# Altium schematic symbol library zetex.SCHLIB: 69 symbols
Pins are listed as number, name and electrical type; pins without a type are passive.

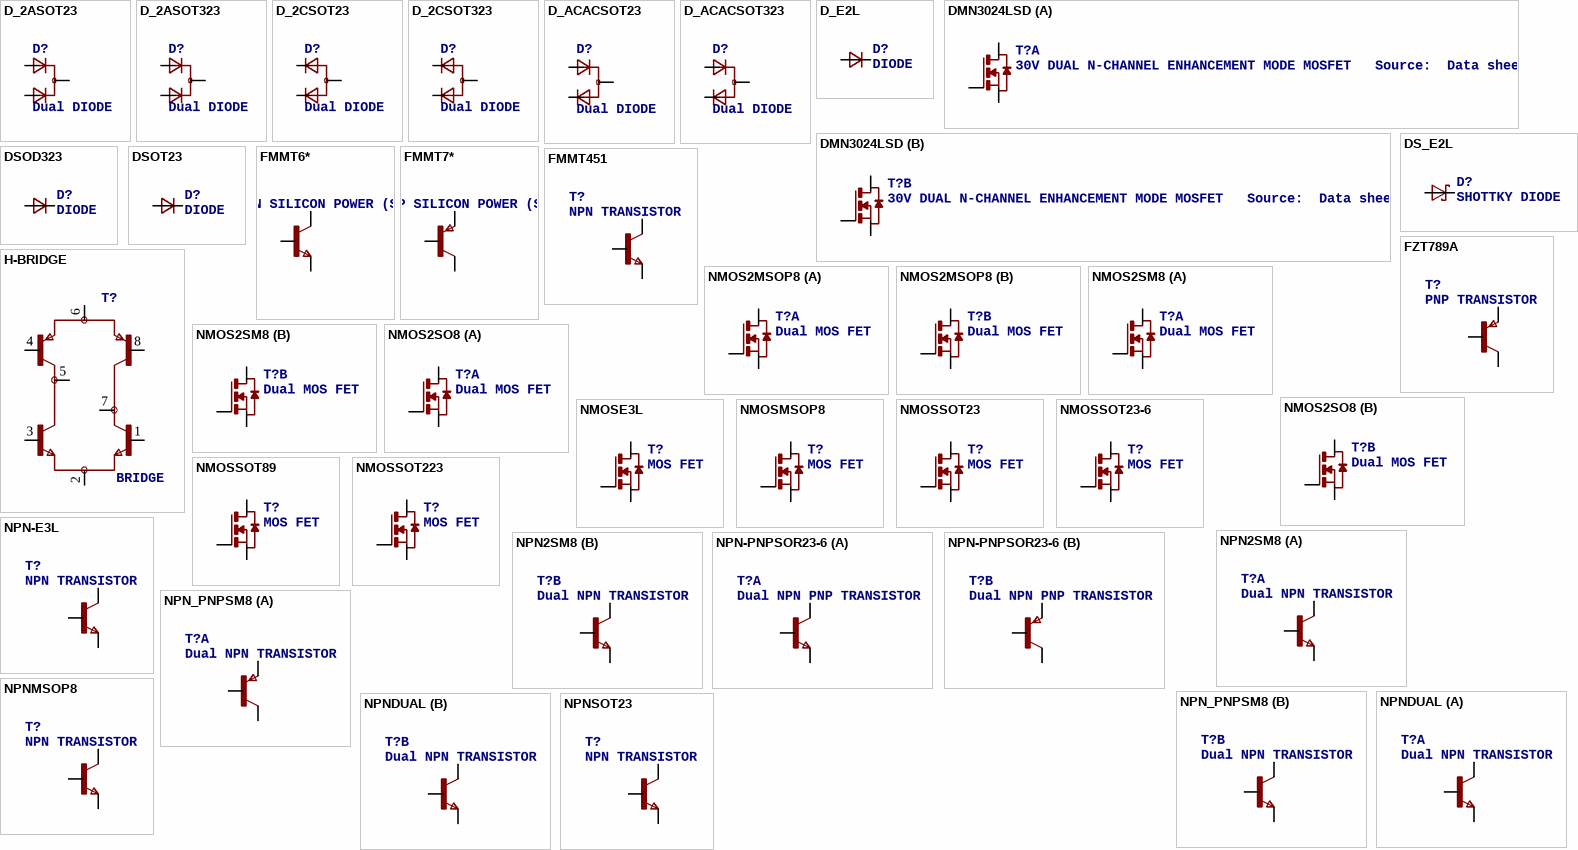
[diagram p0: symbols D_2ASOT23 to NPNSOT23]

## D_2ASOT23
designator D?, comment Dual DIODE
OC_FARNELL: unknown; OC_NEWARK: unknown
footprint SOT-23
pins: 1 C, 2 A1, 3 A2

## D_2ASOT323
designator D?, comment Dual DIODE
OC_FARNELL: unknown; OC_NEWARK: unknown
footprint SOT323
pins: 1 C, 2 A1, 3 A2

## D_2CSOT23
designator D?, comment Dual DIODE
OC_FARNELL: unknown; OC_NEWARK: unknown
footprint SOT-23
pins: 1 A, 2 C1, 3 C2

## D_2CSOT323
designator D?, comment Dual DIODE
OC_FARNELL: unknown; OC_NEWARK: unknown
footprint SOT323
pins: 1 A, 2 C1, 3 C2

## D_ACACSOT23
designator D?, comment Dual DIODE
OC_FARNELL: unknown; OC_NEWARK: unknown
footprint SOT-23
pins: 1 CA, 2 C, 3 A

## D_ACACSOT323
designator D?, comment Dual DIODE
OC_FARNELL: unknown; OC_NEWARK: unknown
footprint SOT323
pins: 1 CA, 2 C, 3 A

## D_E2L
designator D?, comment DIODE
OC_FARNELL: unknown; OC_NEWARK: unknown
footprint E2LINE
pins: 1 C, 2 A

## DMN3024LSD
designator T?, comment 30V DUAL N-CHANNEL ENHANCEMENT MODE MOSFET   Source:  Data sheet
OC_FARNELL: unknown; OC_NEWARK: unknown
footprint SO8
part A pins: 1 S, 2 G, 7 8 D
part B pins: 3 S, 4 G, 5 6 D

## DS_E2L
designator D?, comment SHOTTKY DIODE
OC_FARNELL: unknown; OC_NEWARK: unknown
footprint E2LINE
pins: 1 K, 2 A

## DSOD323
designator D?, comment DIODE
MPN: CDSOD323-T05C; OC_FARNELL: 1824860; OC_NEWARK: 79R6078
footprint SOD323
pins: 1 C, 2 A

## DSOT23
designator D?, comment DIODE
MPN: CDSOT23-T03; OC_FARNELL: 1824866; OC_NEWARK: 75K7096
footprint SOT-23
pins: 1 C, 3 A

## FMMT6*
designator T?, comment NPN SILICON POWER (SWITCHING) TRANSISTORS SuperSOT   Source: http://www.zetex.com/3.0/pdf/FMMT617.pdf
MPN: FMMT618; MPN: FMMT619; MPN: FMMT617; OC_FARNELL: 9526420; OC_NEWARK: 96K9966; OC_FARNELL: 9526439RL; OC_NEWARK: 96K9967; OC_FARNELL: 9526447; OC_NEWARK: 84K9343; OC_FARNELL: 9526439
footprint SOT-23
pins: 1 C, 2 E, 3 B

## FMMT7*
designator T?, comment PNP SILICON POWER (SWITCHING) TRANSISTORS SuperSOT   Source: http://www.zetex.com/3.0/pdf/FMMT717.pdf
MPN: FMMT718; MPN: FMMT720; MPN: FMMT717; OC_FARNELL: 9526455RL; OC_NEWARK: 85K7528; OC_FARNELL: 9526463RL; OC_NEWARK: 96K9968; OC_FARNELL: 9526471; OC_NEWARK: 96K9969; OC_FARNELL: 9526471RL; OC_FARNELL: unknown; OC_NEWARK: unknown
footprint SOT-23
pins: 1 C, 2 E, 3 B

## FMMT451
designator T?, comment NPN TRANSISTOR
OC_FARNELL: unknown; OC_NEWARK: unknown
footprint SOT-23
pins: 1 C, 2 E, 3 B

## FZT789A
designator T?, comment PNP TRANSISTOR
MPN: FZT789A; OC_FARNELL: 9526633; OC_NEWARK: 97K0407
footprint SOT223
pins: 1 B, 2 4 C, 3 E

## H-BRIDGE
designator T?, comment BRIDGE
OC_FARNELL: unknown; OC_NEWARK: unknown
footprint SM8
pins: 1 B3, 2 E2E3, 3 B2, 4 B1, 5 C1C2, 6 E1E4, 7 C3C4, 8 B4

## NMOS2MSOP8
designator T?, comment Dual MOS FET
OC_FARNELL: unknown; OC_NEWARK: unknown
footprint MSOP8
part A pins: 1 S, 2 G, 7 8 D
part B pins: 3 S, 4 G, 5 6 D

## NMOS2SM8
designator T?, comment Dual MOS FET
OC_FARNELL: unknown; OC_NEWARK: unknown
footprint SM8
part A pins: 1 S, 2 G, 7 8 D
part B pins: 3 S, 4 G, 5 6 D

## NMOS2SO8
designator T?, comment Dual MOS FET
OC_FARNELL: unknown; OC_NEWARK: unknown
footprint SO8
part A pins: 1 S, 2 G, 7 8 D
part B pins: 3 S, 4 G, 5 6 D

## NMOSE3L
designator T?, comment MOS FET
OC_FARNELL: unknown; OC_NEWARK: unknown
footprint E3LINE
pins: 1 D, 2 G, 3 S

## NMOSMSOP8
designator T?, comment MOS FET
OC_FARNELL: unknown; OC_NEWARK: unknown
footprint MSOP8
pins: 1 2 3 S, 4 G, 5 6 7 8 D

## NMOSSOT23
designator T?, comment MOS FET
OC_FARNELL: unknown; OC_NEWARK: unknown
footprint SOT-23
pins: 1 D, 2 S, 3 G

## NMOSSOT23-6
designator T?, comment MOS FET
OC_FARNELL: unknown; OC_NEWARK: unknown
footprint SOT23-6
pins: 1 2 5 6 D, 3 G, 4 S

## NMOSSOT89
designator T?, comment MOS FET
OC_FARNELL: unknown; OC_NEWARK: unknown
footprint SOT89
pins: 1 G, 2 2@1 D, 3 S

## NMOSSOT223
designator T?, comment MOS FET
OC_FARNELL: unknown; OC_NEWARK: unknown
footprint SOT223
pins: 1 G, 2 4 D, 3 S

## NPN2SM8
designator T?, comment Dual NPN TRANSISTOR
OC_FARNELL: unknown; OC_NEWARK: unknown
footprint SM8
part A pins: 3 E, 4 B, 5 6 C
part B pins: 1 E, 2 B, 7 8 C

## NPN-E3L
designator T?, comment NPN TRANSISTOR
OC_FARNELL: unknown; OC_NEWARK: unknown
footprint E3LINE
pins: 1 C, 2 B, 3 E

## NPN-PNPSOR23-6
designator T?, comment Dual NPN PNP TRANSISTOR
OC_FARNELL: unknown; OC_NEWARK: unknown
footprint SOT23-6
part A pins: 1 C, 2 B, 6 E
part B pins: 3 C, 4 E, 5 B

## NPN_PNPSM8
designator T?, comment Dual NPN TRANSISTOR
OC_FARNELL: unknown; OC_NEWARK: unknown
footprint SM8
part A pins: 1 E, 2 B, 7 8 C
part B pins: 3 E, 4 B, 5 6 C

## NPNDUAL
designator T?, comment Dual NPN TRANSISTOR
OC_FARNELL: unknown; OC_NEWARK: unknown
footprint SM8
part A pins: 3 E, 4 B, 5 6 C
part B pins: 1 E, 2 B, 7 8 C

## NPNMSOP8
designator T?, comment NPN TRANSISTOR
OC_FARNELL: unknown; OC_NEWARK: unknown
footprint MSOP8
pins: 1 2 3 E, 4 B, 5 6 7 8 C

## NPNSOT23
designator T?, comment NPN TRANSISTOR
MPN: DSS20201L-7; OC_FARNELL: 1710688; OC_NEWARK: 25R4555
footprint SOT-23
pins: 1 C, 2 E, 3 B

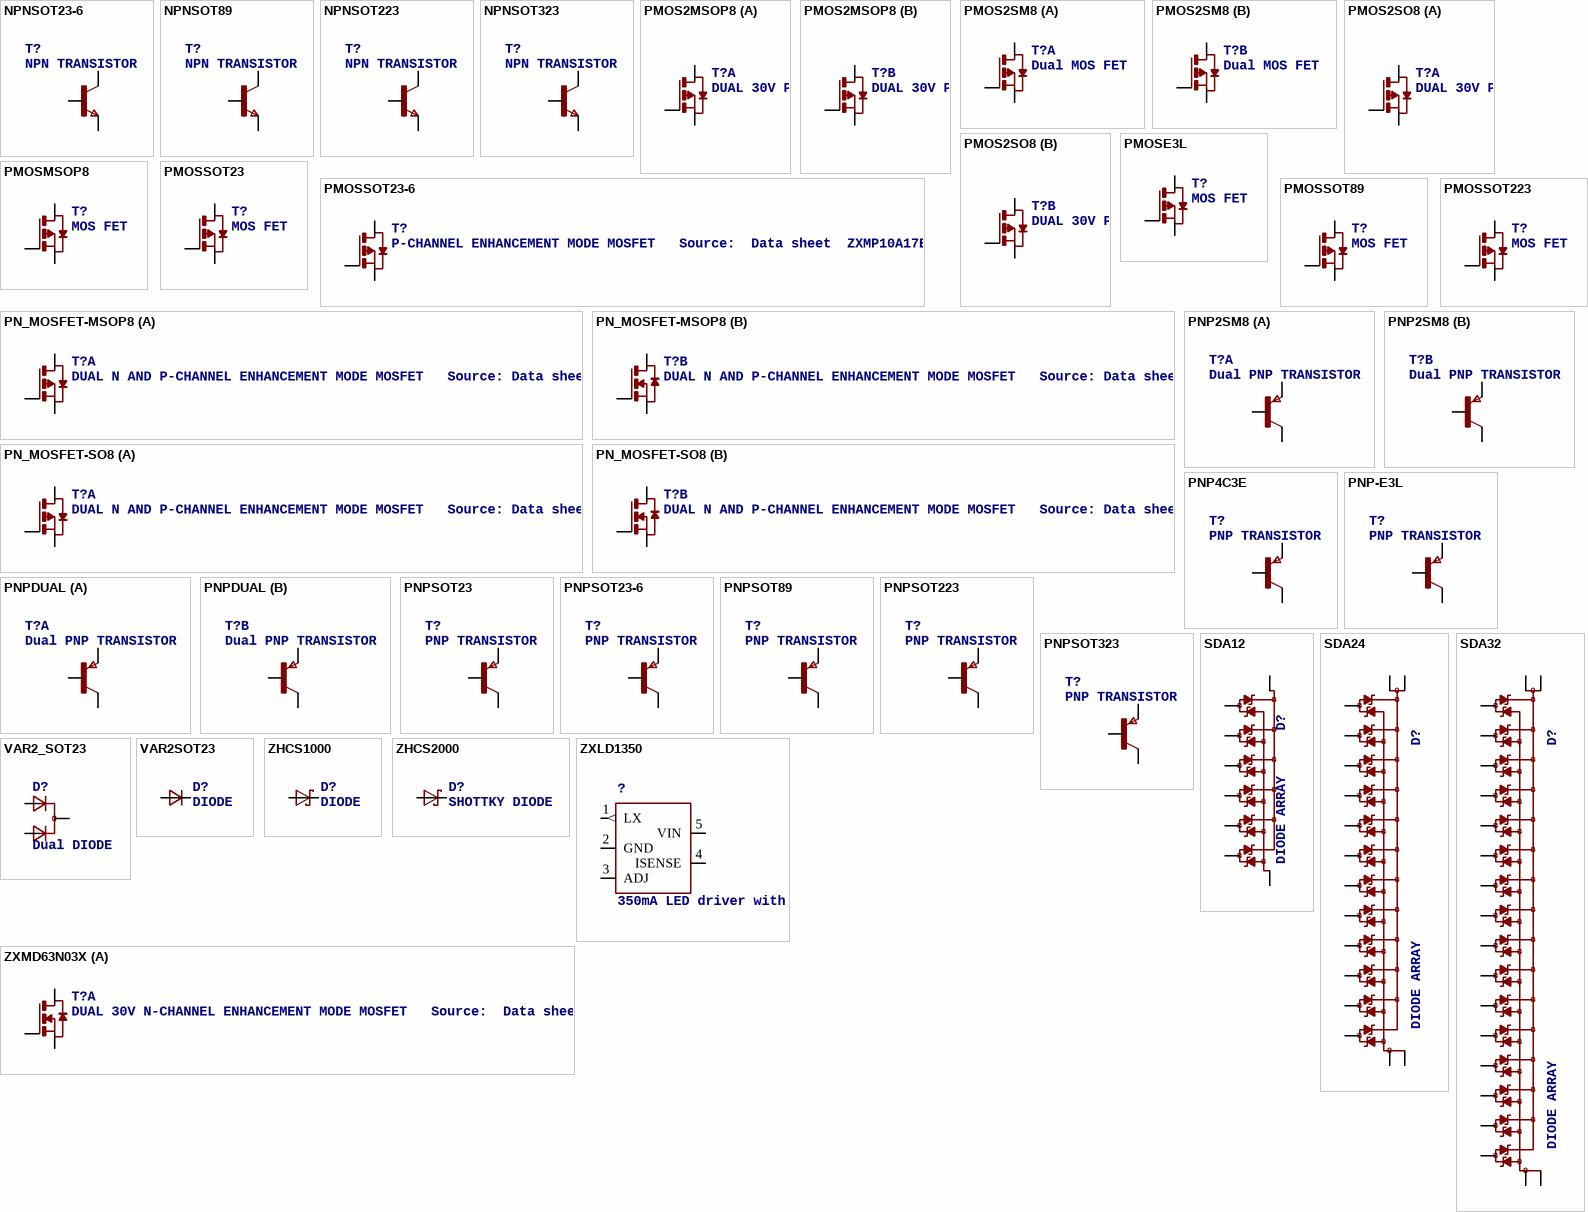
[diagram p1: symbols NPNSOT23-6 to ZXMD63N03X]

## NPNSOT23-6
designator T?, comment NPN TRANSISTOR
MPN: ZXT13N50DE6; OC_FARNELL: 9525394; OC_NEWARK: 98K4165
footprint SOT23-6
pins: 1 2 5 6 C, 3 B, 4 E

## NPNSOT89
designator T?, comment NPN TRANSISTOR
MPN: DSS4540X-13; OC_FARNELL: 1710677; OC_NEWARK: 25R4564
footprint SOT89
pins: 1 B, 2 2@1 C, 3 E

## NPNSOT223
designator T?, comment NPN TRANSISTOR
MPN: DJT4031N-13; OC_FARNELL: 1710672; OC_NEWARK: 25R4490
footprint SOT223
pins: 1 B, 2 4 C, 3 E

## NPNSOT323
designator T?, comment NPN TRANSISTOR
MPN: DSS4160U-7; OC_FARNELL: 1710696; OC_NEWARK: 25R4558
footprint SOT323
pins: 1 C, 2 B, 3 E

## PMOS2MSOP8
designator T?, comment DUAL 30V P-CHANNEL ENHANCEMENT MODE MOSFET   Source:  Data sheet SOP8 Source:  Data sheet  MSOP8
OC_FARNELL: 1412091; OC_NEWARK: unknown
footprint MSOP8
part A pins: 1 S, 2 G, 7 8 D
part B pins: 3 S, 4 G, 5 6 D

## PMOS2SM8
designator T?, comment Dual MOS FET
MPN: STS1NK60Z; OC_FARNELL: 1412107; OC_NEWARK: 57P2212
footprint SM8
part A pins: 3 S, 4 G, 5 6 D
part B pins: 1 S, 2 G, 7 8 D

## PMOS2SO8
designator T?, comment DUAL 30V P-CHANNEL ENHANCEMENT MODE MOSFET   Source:  Data sheet SOP8 Source:  Data sheet  MSOP8
OC_FARNELL: unknown; OC_NEWARK: unknown
footprint SO8
part A pins: 1 S, 2 G, 7 8 D
part B pins: 3 S, 4 G, 5 6 D

## PMOSE3L
designator T?, comment MOS FET
OC_FARNELL: unknown; OC_NEWARK: unknown
footprint E3LINE
pins: 1 D, 2 G, 3 S

## PMOSMSOP8
designator T?, comment MOS FET
OC_FARNELL: 1412091; OC_NEWARK: unknown
footprint MSOP8
pins: 1 2 3 S, 4 G, 5 6 7 8 D

## PMOSSOT23
designator T?, comment MOS FET
OC_FARNELL: unknown; OC_NEWARK: unknown
footprint SOT-23
pins: 1 D, 2 S, 3 G

## PMOSSOT23-6
designator T?, comment P-CHANNEL ENHANCEMENT MODE MOSFET   Source:  Data sheet  ZXMP10A17E6
OC_FARNELL: unknown; OC_NEWARK: unknown
footprint SOT23-6
pins: 1 2 5 6 D, 3 G, 4 S

## PMOSSOT89
designator T?, comment MOS FET
OC_FARNELL: unknown; OC_NEWARK: unknown
footprint SOT89
pins: 1 G, 2 D, 3 S

## PMOSSOT223
designator T?, comment MOS FET
OC_FARNELL: unknown; OC_NEWARK: unknown
footprint SOT223
pins: 1 G, 2 4 D, 3 S

## PN_MOSFET-MSOP8
designator T?, comment DUAL N AND P-CHANNEL ENHANCEMENT MODE MOSFET   Source: Data sheet
OC_FARNELL: unknown; OC_NEWARK: unknown
footprint MSOP8
part A pins: 3 S, 4 G, 5 6 D
part B pins: 1 S, 2 G, 7 8 D

## PN_MOSFET-SO8
designator T?, comment DUAL N AND P-CHANNEL ENHANCEMENT MODE MOSFET   Source: Data sheet
OC_FARNELL: unknown; OC_NEWARK: unknown
footprint SO8
part A pins: 3 S, 4 G, 5 6 D
part B pins: 1 S, 2 G, 7 8 D

## PNP2SM8
designator T?, comment Dual PNP TRANSISTOR
OC_FARNELL: unknown; OC_NEWARK: unknown
footprint SM8
part A pins: 3 E, 4 B, 5 6 C
part B pins: 1 E, 2 B, 7 8 C

## PNP4C3E
designator T?, comment PNP TRANSISTOR
OC_FARNELL: unknown; OC_NEWARK: unknown
footprint MSOP8
pins: 1 2 3 E, 4 B, 5 6 7 8 C

## PNP-E3L
designator T?, comment PNP TRANSISTOR
OC_FARNELL: unknown; OC_NEWARK: unknown
footprint E3LINE
pins: 1 C, 2 B, 3 E

## PNPDUAL
designator T?, comment Dual PNP TRANSISTOR
OC_FARNELL: unknown; OC_NEWARK: unknown
footprint SM8
part A pins: 1 E, 2 B, 7 8 C
part B pins: 3 E, 4 B, 5 6 C

## PNPSOT23
designator T?, comment PNP TRANSISTOR
MPN: DSS20200L-7; OC_FARNELL: unknown; OC_NEWARK: 25R4554
footprint SOT-23
pins: 1 C, 2 E, 3 B

## PNPSOT23-6
designator T?, comment PNP TRANSISTOR
MPN: ZXT13P12DE6; OC_FARNELL: 1471192RL; OC_NEWARK: 70K9269
footprint SOT23-6
pins: 1 2 5 6 C, 3 B, 4 E

## PNPSOT89
designator T?, comment PNP TRANSISTOR
MPN: 2DB1713-13; OC_FARNELL: 1710687; OC_NEWARK: 25R5670
footprint SOT89
pins: 1 B, 2 2@1 C, 3 E

## PNPSOT223
designator T?, comment PNP TRANSISTOR
MPN: DJT4030P-13; OC_FARNELL: 1710675; OC_NEWARK: 25R4489
footprint SOT223
pins: 1 B, 2 4 C, 3 E

## PNPSOT323
designator T?, comment PNP TRANSISTOR
MPN: 2DB1689-7; OC_FARNELL: 1710698; OC_NEWARK: 25R5667
footprint SOT323
pins: 1 C, 2 B, 3 E

## SDA12
designator D?, comment DIODE ARRAY
OC_FARNELL: 9802282; OC_NEWARK: unknown
footprint SO8
pins: 1 V+, 2 D01, 3 D02, 4 D03, 5 V-, 6 D04, 7 D05, 8 D06

## SDA24
designator D?, comment DIODE ARRAY
OC_FARNELL: unknown; OC_NEWARK: unknown
footprint SO16
pins: 1 V+, 2 D01, 3 D02, 4 D03, 5 D04, 6 D05, 7 D06, 8 V-, 9 V-1, 10 D07, 11 D08, 12 D09, 13 D10, 14 D11, 15 D12, 16 V+1

## SDA32
designator D?, comment DIODE ARRAY
OC_FARNELL: 1749275; OC_NEWARK: unknown
footprint SO20W
pins: 1 V+, 2 D01, 3 D02, 4 D03, 5 D04, 6 D05, 7 D06, 8 D07, 9 D08, 10 V-, 11 V-1, 12 D09, 13 D10, 14 D11, 15 D12, 16 D13, 17 D14, 18 D15, 19 D16, 20 V+1

## VAR2_SOT23
designator D?, comment Dual DIODE
OC_FARNELL: unknown; OC_NEWARK: unknown
footprint SOT-23
pins: 1 C, 2 A1, 3 A2

## VAR2SOT23
designator D?, comment DIODE
OC_FARNELL: unknown; OC_NEWARK: unknown
footprint SOT-23
pins: 1 C, 3 A

## ZHCS1000
designator D?, comment DIODE
MPN: ZHCS1000; OC_FARNELL: 9526773; OC_NEWARK: 79K1827
footprint SOT-23
pins: 1 K, 3 A

## ZHCS2000
designator D?, comment SHOTTKY DIODE
MPN: ZHCS2000; OC_FARNELL: 9525653; OC_NEWARK: 98K3992
footprint SOT23-6
pins: 1 2 5 6 K, 3 4 A

## ZXLD1350
designator ?, comment 350mA LED driver with internal switch   Source: Uploaded by Edmondo Gigli <edmondog@alice.it> from EG, Fri Nov 27 01:40:34 2009
MPN: ZXLD1350ET5; OC_FARNELL: 1226470; OC_NEWARK: 05M2175
footprint SOT23-5
pins: 1 LX (out), 2 GND (power), 3 ADJ, 4 ISENSE, 5 VIN (power)

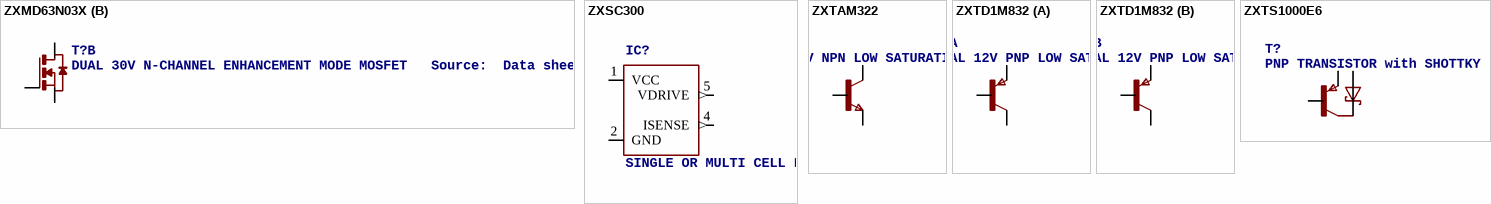
[diagram p2: symbols ZXMD63N03X to ZXTS1000E6]

## ZXMD63N03X
designator T?, comment DUAL 30V N-CHANNEL ENHANCEMENT MODE MOSFET   Source:  Data sheet
OC_FARNELL: unknown; OC_NEWARK: unknown
footprint MSOP8
part A pins: 1 S, 2 G, 7 8 D
part B pins: 3 S, 4 G, 5 6 D

## ZXSC300
designator IC?, comment SINGLE OR MULTI CELL LED DRIVER SOLUTION   Manufacturer: http://www.zetex.com http://www.avxcorp.com http://www.coilcraft.com http://www.nichia.co.jp Source: http://www.zetex.com/3.0/pdf/ZXSC300.pdf
MPN: ZXSC300E5TA; OC_FARNELL: 7721340; OC_NEWARK: 34M9011
footprint SOT23-5
pins: 1 VCC (power), 2 GND (power), 4 ISENSE (out), 5 VDRIVE (out)

## ZXTAM322
designator T?, comment 15V NPN LOW SATURATION TRANSISTOR   MPPS Miniature Package Power Solutions Source: www.zetex.com/ .. zxtam322.pdf
OC_FARNELL: unknown; OC_NEWARK: unknown
footprint MLP322
pins: B, C C@1 C@2 C@3 C, E

## ZXTD1M832
designator T?, comment DUAL 12V PNP LOW SATURATION SWITCHING TRANSISTOR   MPPS Miniature Package Power Solutions Source: www.zetex.com/ .. zxtd1m832.pdf
OC_FARNELL: unknown; OC_NEWARK: unknown
footprint MLP832
part A pins: 1 B, 2 E, 7 8 C
part B pins: 3 B, 4 E, 5 6 C

## ZXTS1000E6
designator T?, comment PNP TRANSISTOR with SHOTTKY
MPN: ZXT13N50DE6; OC_FARNELL: 1471192; OC_NEWARK: 98K4165
footprint SOT23-6
pins: 1 E, 2 B, 3 A, 4 5 6 C